# EAGLE library part ADUM3154 (library KylePile)
4-ch SPI Isolator: http://www.analog.com/media/en/technical-documentation/data-sheets/ADuM3154.pdf
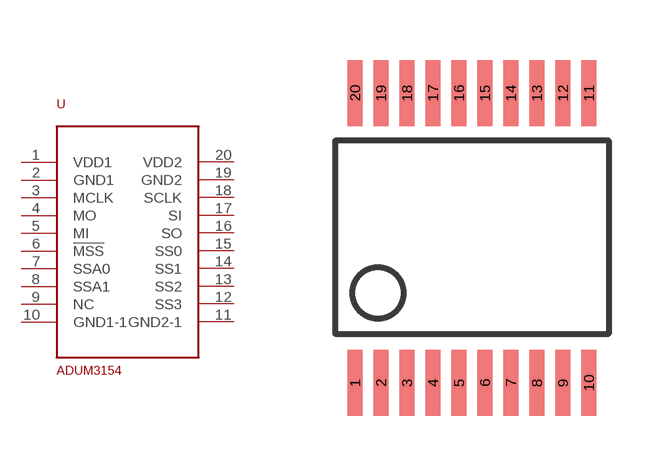
[diagram p20: symbol with the pads of SSOP20; footprint SSOP20]

Designator prefix -

## ADUM3154  [SSOP20]
1  VDD1
2  GND1
3  MCLK
4  MO
5  MI
6  !MSS
7  SSA0
8  SSA1
9  NC
10  GND1-1
11  GND2-1
12  SS3
13  SS2
14  SS1
15  SS0
16  SO
17  SI
18  SCLK
19  GND2
20  VDD2

## Footprint SSOP20 (pad centres in mm)
Small Shrink Outline Package 20-Pin (210-MIL) SSOP Source: http://www.cypress.com .. 38-12025_0P_V.pdf
smd 0.38 x 1.654: 1 -2.925,-3.64; 2 -2.275,-3.64; 3 -1.625,-3.64; 4 -0.975,-3.64; 5 -0.325,-3.64; 6 0.325,-3.64; 7 0.975,-3.64; 8 1.625,-3.64; 9 2.275,-3.64; 10 2.925,-3.64; 11 2.925,3.612; 12 2.275,3.612; 13 1.625,3.612; 14 0.975,3.612; 15 0.325,3.612; 16 -0.325,3.612; 17 -0.975,3.612; 18 -1.625,3.612; 19 -2.275,3.612; 20 -2.925,3.612